# Altium footprint library mrsl.PcbLib: 218 footprints (part 10 of 14)
Each footprint in its own frame and in the unit in brackets; x right, y up, seen from the top. Pads: shape width x height; smd on the part's side, far side on the other; paste and mask are expansions set on the pad; w line width, h text height; cw(c..) or ccw(c..) is an arc to the next point about the centre after c.
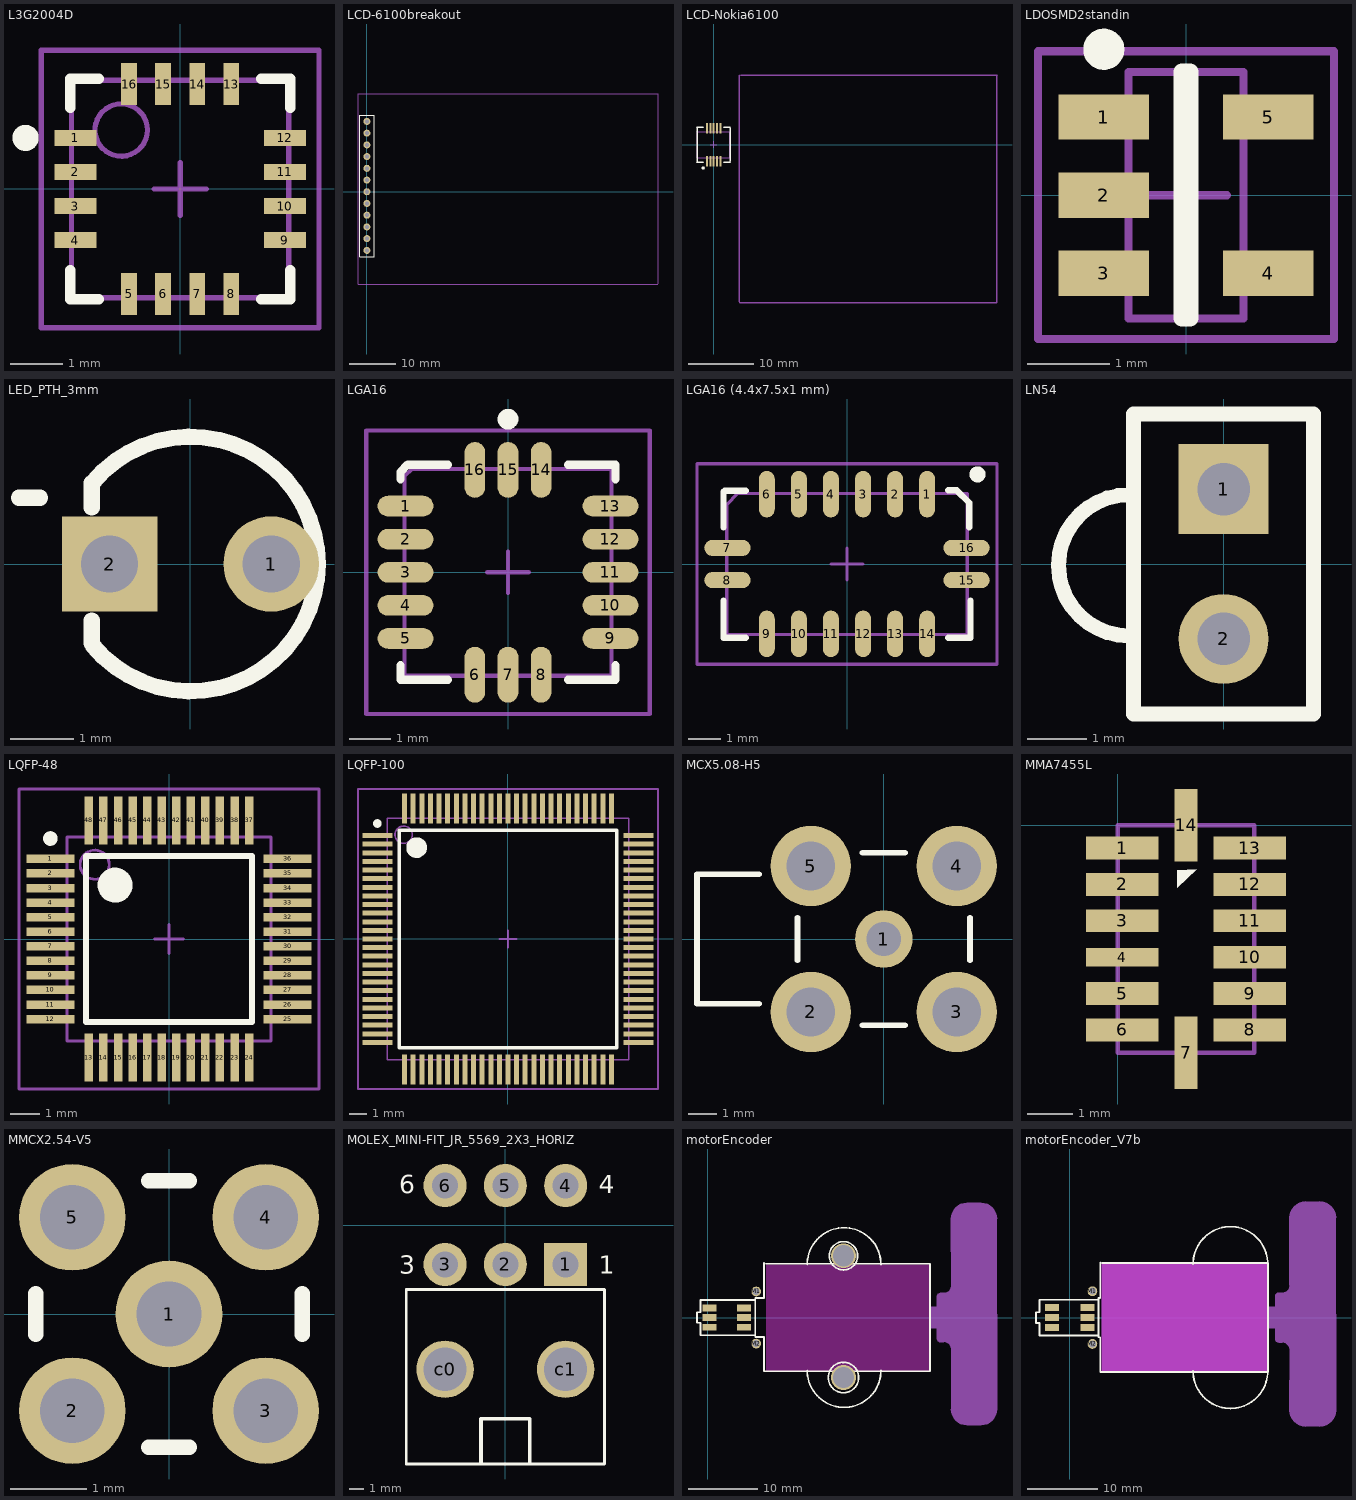
[diagram p9: the footprints below, top view; thin cyan lines are the x and y axes]

## L3G2004D [mm] "gyroscope"
height 1.1
pads (16):
  rect 0.8x0.3 smd: 1(-2,0.975) 2(-2,0.325) 3(-2,-0.325) 4(-2,-0.975) 9(2,-0.975) 10(2,-0.325) 11(2,0.325) 12(2,0.975)
  rect 0.3x0.8 smd: 5(-0.975,-2) 6(-0.325,-2) 7(0.325,-2) 8(0.975,-2) 13(0.975,2) 14(0.325,2) 15(-0.325,2) 16(-0.975,2)
Top Overlay:
  circle w0.25: c-2.95,0.975 r0.125
  lines w0.2: -2.1,-1.55 -2.1,-2.1 -1.55,-2.1 ; -2.1,1.55 -2.1,2.1 -1.55,2.1 ; 1.55,-2.1 2.1,-2.1 2.1,-1.55 ; 1.55,2.1 2.1,2.1 2.1,1.55
Mechanical 13:
  circle w0.1: c-1.125,1.125 r0.5
  lines w0.1: -2.075,-2.075 2.075,-2.075 2.075,2.075 -2.075,2.075 -2.075,-2.075
Mechanical 15:
  lines w0.1: -0.5,0 0.5,0 ; 0,-0.5 0,0.5 ; -2.65,-2.65 2.65,-2.65 2.65,2.65 -2.65,2.65 -2.65,-2.65
3D body: height 1.1, standoff 0.2, extent -2.075,-2.075 2.075,2.075

## LCD-6100breakout [mil]
pads (12):
  round 60 hole 35: 1(0,-500) 2(0,-400) 3(0,-300) 4(0,-200) 5(0,-100) 6(0,0) 7(0,100) 8(0,200) 9(0,300) 10(0,400) 11(0,500) 12(0,600)
Top Overlay:
  lines w10: -62,-553 -62,651 62,651 62,-553 -62,-553
Mechanical 1:
  lines w10: -76,-791 2480.32,-791 ; -76,-787.4 -76,837.4 ; -75,838 2480.32,838 ; 2484,-786 2484,837.8

## LCD-Nokia6100 [mil] "Connector, Socket Strip, Double Row, SMT, 20 Position, Vertical, Pitch 2mm, Body 20 x 4 mm (LxW)"
height 217.72
pads (10):
  rect 11.8x63 smd: 1(-40,-100) 2(-20,-100) 3(0,-100) 4(20,-100) 5(40,-100) 6(40,100) 7(20,100) 8(0,100) 9(-20,100) 10(-40,100)
Top Overlay:
  circle w9.84: c-62.92,-140 r4.92
  lines w7.87: -100,-100 -100,100 ; 100,-100 100,100
  lines w10: -100,-105 -62,-105 ; -100,104 -62,104 ; 62,-105 99,-105 ; 62,105 99,105
Mechanical 1:
  lines w10: 154,-943 154,417 ; 157,-949 1695,-949 ; 163,416 1701,416 ; 1700,-948 1700,412
Mechanical 13:
  lines w3.94: -100,-78.74 -100,78.74 98,78.74 98,-78.74 -100,-78.74
Mechanical 15:
  lines w3.94: -19.69,0 19.68,0 ; 0,-19.68 0,19.68
3D body: height 140.16, standoff 0, extent -101,-80 100,79

## LDOSMD2standin [mm] "SOT23, 5-Leads, Body 3.0x2.6mm (max), Pitch 0.95mm, IPC Medium Density"
height 1.1
pads (5):
  rect 1.1x0.55 smd: 1(-1,0.95) 2(-1,0) 3(-1,-0.95) 4(1,-0.95) 5(1,0.95)
Top Overlay:
  circle w0.25: c-1,1.775 r0.125
  lines w0.2: -0.05,-1.5 -0.05,1.5 0.05,1.5 0.05,-1.5 -0.05,-1.5
Mechanical 13:
  lines w0.1: -0.7,-1.5 0.7,-1.5 0.7,1.5 -0.7,1.5 -0.7,-1.5
Mechanical 15:
  lines w0.1: -0.5,0 0.5,0 ; 0,-0.5 0,0.5 ; -1.8,-1.75 1.8,-1.75 1.8,1.75 -1.8,1.75 -1.8,-1.75
3D body: height 1.1, standoff 0.05, extent -0.7,-1.5 0.7,1.5

## LED_PTH_3mm [mm] "Pin Though Hole 3mm LED with 0.1 Pitch Leads"
height 5
pads (2):
  round 1.5 hole 0.9: 1(1.27,0)
  rect 1.5x1.5 hole 0.9: 2(-1.27,0)
Top Overlay:
  lines w0.254: -2.692,1.041 -2.362,1.041 ; -1.549,-1.245 -1.549,-0.889 ; -1.549,0.889 -1.549,1.27 ; -1.532,-1.286 ccw(c0,0) -1.532,1.286

## LGA16 [mm] "LCC, 16-Pins, Body 5.2x5.2mm (max), Pitch 0.80mm, IPC Medium Density"
height 1.6
pads (16):
  oval 1.35x0.5 smd: 1(-2.475,1.6) 2(-2.475,0.8) 3(-2.475,0) 4(-2.475,-0.8) 5(-2.475,-1.6) 9(2.475,-1.6) 10(2.475,-0.8) 11(2.475,0) 12(2.475,0.8) 13(2.475,1.6)
  oval 0.5x1.35 smd: 6(-0.8,-2.475) 7(0,-2.475) 8(0.8,-2.475) 14(0.8,2.475) 15(0,2.475) 16(-0.8,2.475)
Top Overlay:
  circle w0.25: c0,3.7 r0.125
  lines w0.2: -2.6,-2.25 -2.6,-2.6 -1.45,-2.6 ; -2.6,2.25 -2.6,2.425 -2.425,2.6 -1.45,2.6 ; 1.45,-2.6 2.6,-2.6 2.6,-2.25 ; 1.45,2.6 2.6,2.6 2.6,2.25
Mechanical 13:
  lines w0.1: -2.5,-2.5 -2.5,2.325 -2.325,2.5 2.5,2.5 2.5,-2.5 -2.5,-2.5
Mechanical 15:
  lines w0.1: -0.5,0 0.5,0 ; 0,-0.5 0,0.5 ; -3.425,-3.425 -3.425,3.425 3.425,3.425 3.425,-3.425 -3.425,-3.425
3D body: height 1.6, standoff 0, extent -2.5,-2.5 2.5,2.5

## LGA16 (4.4x7.5x1 mm) [mm] "LCC, 16-Pins, Body 7.7x4.6mm (max), Pitch 1.00mm, IPC Medium Density"
height 1
pads (16):
  oval 0.5x1.45 smd: 1(2.5,2.175) 2(1.5,2.175) 3(0.5,2.175) 4(-0.5,2.175) 5(-1.5,2.175) 6(-2.5,2.175) 9(-2.5,-2.175) 10(-1.5,-2.175) 11(-0.5,-2.175) 12(0.5,-2.175) 13(1.5,-2.175) 14(2.5,-2.175)
  oval 1.45x0.5 smd: 7(-3.725,0.5) 8(-3.725,-0.5) 15(3.725,-0.5) 16(3.725,0.5)
Top Overlay:
  circle w0.25: c4.066,2.794 r0.125
  lines w0.2: -3.85,-1.15 -3.85,-2.3 -3.15,-2.3 ; -3.85,1.15 -3.85,2.246 -3.81,2.286 -3.15,2.286 ; 3.15,-2.3 3.85,-2.3 3.85,-1.15 ; 3.15,2.3 3.415,2.3 3.81,1.905 3.81,1.15
Mechanical 13:
  lines w0.1: -3.75,-2.2 -3.75,1.85 -3.4,2.2 3.75,2.2 3.75,-2.2 -3.75,-2.2
Mechanical 15:
  lines w0.1: -0.5,0 0.5,0 ; 0,-0.5 0,0.5 ; -4.675,-3.125 -4.675,3.125 4.675,3.125 4.675,-3.125 -4.675,-3.125
3D body: height 1, standoff 0, extent -3.75,-2.2 3.75,2.2

## LN54 [mil]
pads (2):
  rect 60x60 hole 35: 1(0,50)
  round 60 hole 35: 2(0,-50)
Top Overlay:
  lines w10: -62.99,-47.88 cw(c-62.99,-0.87) -62.99,46.15 ; -60,-100 -60,100 60,100 60,-100 -60,-100

## LQFP-48 [mm] "sound chip (9x9mm)"
height 1.6
pads (48):
  rect 1.65x0.29 smd: 1(-4.075,2.75) 2(-4.075,2.25) 3(-4.075,1.75) 4(-4.075,1.25) 5(-4.075,0.75) 6(-4.075,0.25) 7(-4.075,-0.25) 8(-4.075,-0.75) 9(-4.075,-1.25) 10(-4.075,-1.75) 11(-4.075,-2.25) 12(-4.075,-2.75) 25(4.075,-2.75) 26(4.075,-2.25) 27(4.075,-1.75) 28(4.075,-1.25) 29(4.075,-0.75) 30(4.075,-0.25) 31(4.075,0.25) 32(4.075,0.75) 33(4.075,1.25) 34(4.075,1.75) 35(4.075,2.25) 36(4.075,2.75)
  rect 0.29x1.65 smd: 13(-2.75,-4.075) 14(-2.25,-4.075) 15(-1.75,-4.075) 16(-1.25,-4.075) 17(-0.75,-4.075) 18(-0.25,-4.075) 19(0.25,-4.075) 20(0.75,-4.075) 21(1.25,-4.075) 22(1.75,-4.075) 23(2.25,-4.075) 24(2.75,-4.075) 37(2.75,4.075) 38(2.25,4.075) 39(1.75,4.075) 40(1.25,4.075) 41(0.75,4.075) 42(0.25,4.075) 43(-0.25,4.075) 44(-0.75,4.075) 45(-1.25,4.075) 46(-1.75,4.075) 47(-2.25,4.075) 48(-2.75,4.075)
Top Overlay:
  circle w0.6: c-1.85,1.85 r0.3
  circle w0.25: c-4.075,3.45 r0.125
  lines w0.2: -2.85,-2.85 2.85,-2.85 2.85,2.85 -2.85,2.85 -2.85,-2.85
Mechanical 13:
  circle w0.1: c-2.55,2.55 r0.5
  lines w0.1: -3.5,-3.5 3.5,-3.5 3.5,3.5 -3.5,3.5 -3.5,-3.5
Mechanical 15:
  lines w0.1: -0.5,0 0.5,0 ; 0,-0.5 0,0.5 ; -5.15,-5.15 5.15,-5.15 5.15,5.15 -5.15,5.15 -5.15,-5.15
3D body: height 1.6, standoff 0.05, extent -3.5,-3.5 3.5,3.5

## LQFP-100 [mm] "100-Pin LQFP Package"
height 1.6
pads (100):
  rect 1.75x0.29 smd: 1(-7.575,6) 2(-7.575,5.5) 3(-7.575,5) 4(-7.575,4.5) 5(-7.575,4) 6(-7.575,3.5) 7(-7.575,3) 8(-7.575,2.5) 9(-7.575,2) 10(-7.575,1.5) 11(-7.575,1) 12(-7.575,0.5) 13(-7.575,0) 14(-7.575,-0.5) 15(-7.575,-1) 16(-7.575,-1.5) 17(-7.575,-2) 18(-7.575,-2.5) 19(-7.575,-3) 20(-7.575,-3.5) 21(-7.575,-4) 22(-7.575,-4.5) 23(-7.575,-5) 24(-7.575,-5.5) 25(-7.575,-6) 51(7.575,-6) 52(7.575,-5.5) 53(7.575,-5) 54(7.575,-4.5) 55(7.575,-4) 56(7.575,-3.5) 57(7.575,-3) 58(7.575,-2.5) 59(7.575,-2) 60(7.575,-1.5) 61(7.575,-1) 62(7.575,-0.5) 63(7.575,0) 64(7.575,0.5) 65(7.575,1) 66(7.575,1.5) 67(7.575,2) 68(7.575,2.5) 69(7.575,3) 70(7.575,3.5) 71(7.575,4) 72(7.575,4.5) 73(7.575,5) 74(7.575,5.5) 75(7.575,6)
  rect 0.29x1.75 smd: 26(-6,-7.575) 27(-5.5,-7.575) 28(-5,-7.575) 29(-4.5,-7.575) 30(-4,-7.575) 31(-3.5,-7.575) 32(-3,-7.575) 33(-2.5,-7.575) 34(-2,-7.575) 35(-1.5,-7.575) 36(-1,-7.575) 37(-0.5,-7.575) 38(0,-7.575) 39(0.5,-7.575) 40(1,-7.575) 41(1.5,-7.575) 42(2,-7.575) 43(2.5,-7.575) 44(3,-7.575) 45(3.5,-7.575) 46(4,-7.575) 47(4.5,-7.575) 48(5,-7.575) 49(5.5,-7.575) 50(6,-7.575) 76(6,7.575) 77(5.5,7.575) 78(5,7.575) 79(4.5,7.575) 80(4,7.575) 81(3.5,7.575) 82(3,7.575) 83(2.5,7.575) 84(2,7.575) 85(1.5,7.575) 86(1,7.575) 87(0.5,7.575) 88(0,7.575) 89(-0.5,7.575) 90(-1,7.575) 91(-1.5,7.575) 92(-2,7.575) 93(-2.5,7.575) 94(-3,7.575) 95(-3.5,7.575) 96(-4,7.575) 97(-4.5,7.575) 98(-5,7.575) 99(-5.5,7.575) 100(-6,7.575)
Top Overlay:
  circle w0.25: c-7.575,6.7 r0.125
  circle w0.6: c-5.3,5.3 r0.3
  lines w0.2: -6.3,-6.3 -6.3,6.3 6.3,6.3 6.3,-6.3 -6.3,-6.3
Mechanical 13:
  circle w0.1: c-6.05,6.05 r0.5
  lines w0.1: -7,-7 -7,7 7,7 7,-7 -7,-7
Mechanical 15:
  lines w0.1: -0.5,0 0.5,0 ; 0,-0.5 0,0.5 ; -8.7,-8.7 -8.7,8.7 8.7,8.7 8.7,-8.7 -8.7,-8.7
3D body: height 1.6, standoff 0.15, extent -7,-7 7,7

## MCX5.08-H5 [mm] "Connector; RF Coaxial, MCX, Thru-Hole; 5 Position; Right-Angle"
height 5.85
pads (5):
  round 2 hole 1.2: 1(0,0)
  round 2.8 hole 1.7: 2(-2.54,-2.54) 3(2.54,-2.54) 4(2.54,2.54) 5(-2.54,2.54)
Top Overlay:
  lines w0.2: -4.34,-2.25 -6.5,-2.25 -6.5,2.25 -4.34,2.25 ; -3,-0.74 -3,0.74 ; -0.74,-3 0.74,-3 ; -0.74,3 0.74,3 ; 3,-0.74 3,0.74

## MMA7455L [mm]
pads (14):
  rect 1.6x0.5 smd: 1(0.1,-0.5) 2(0.1,-1.3) 3(0.1,-2.1) 5(0.1,-3.7) 6(0.1,-4.5) 8(2.9,-4.5) 9(2.9,-3.7) 10(2.9,-2.9) 11(2.9,-2.1) 12(2.9,-1.3) 13(2.9,-0.5)
  rect 1.6x0.4 smd: 4(0.1,-2.9)
  rect 0.5x1.6 smd: 7(1.5,-5) 14(1.5,0)
Top Overlay:
  region: 1.308,-1.372 1.308,-0.991 1.74,-0.965
Mechanical 13:
  lines w0.1: 0,-5 0,0 3,0 3,-5 0,-5

## MMCX2.54-V5 [mm] "Connector; RF Coaxial, MMCX, Thru-Hole; 5 Position; Vertical"
height 4.45
pads (5):
  round 1.4 hole 0.85: 1(0,0) 2(-1.27,-1.27) 3(1.27,-1.27) 4(1.27,1.27) 5(-1.27,1.27)
Top Overlay:
  lines w0.2: -1.75,-0.27 -1.75,0.27 ; -0.27,-1.75 0.27,-1.75 ; -0.27,1.75 0.27,1.75 ; 1.75,-0.27 1.75,0.27

## MOLEX_MINI-FIT_JR_5569_2X3_HORIZ [mm] "Molex Mini-Fit Jr 5569 Shrouded Rectangular Male Header, Through Hole, Right Angle, 2X3 Pins with Board Lock"
height 10
pads (8):
  rect 3x3 hole 1.8: 1(4.2,-2.75)
  round 3 hole 1.8: 2(0,-2.75) 3(-4.2,-2.75) 4(4.2,2.75) 5(0,2.75) 6(-4.2,2.75)
  round 4 hole 3: c0(-4.2,-10.05) c1(4.2,-10.05)
Top Overlay:
  lines w0.2: -6.9,-16.65 -6.9,-4.5 6.9,-4.5 6.9,-16.65 -6.9,-16.65
  lines w0.254: -1.7,-16.586 -1.7,-13.5 1.7,-13.5 1.7,-16.586
  text "4" at 6.5,2.2 h1.27
  text "1" at 6.5,-3.4 h1.27
  text "3" at -7.4,-3.4 h1.27
  text "6" at -7.4,2.2 h1.27
3D body: height 10, standoff 0.2, extent -6.883,-16.662 6.883,-3.835

## motorEncoder [mm] "Precision Wire Wound Inductor, 2-Leads, Body 2.5x2.3mm, IPC Medium Density"
height 2.29
pads (8):
  rect 2x1 smd: A(0.25,1.4) C(5.25,1.4) E1(5.25,0) E2(5.25,-1.4) K(0.25,-1.4) NC(0.25,0)
  round 1.4 hole 1: M1(7,3.75) M2(7,-3.75)
via 19.558,8.89 diameter 3.556 hole 3.048
via 19.558,-8.636 diameter 3.556 hole 3.048
Top Overlay:
  circle w0.254: c19.558,8.89 r2.032
  circle w0.254: c19.558,-8.636 r2.185
  lines w0.254: 6.858,-2.54 -1.02,-2.54 -1.02,-0.762 -1.524,-0.762 -1.524,0.762 -1.01,0.762 -1.01,2.54 6.858,2.54 ; 8.128,-7.75 32,-7.75 32,7.75 8.382,7.75 ; 8.128,-7.62 8.128,-2.794 6.858,-2.794 6.858,-2.032 6.858,2.794 8.128,2.794 8.128,7.874 ; 14.341,-7.62 ccw(c19.65,-7.62) 24.959,-7.62 ; 14.341,7.62 cw(c19.65,7.62) 24.959,7.62
Keep-Out Layer:
  rectangle: 8.382,-7.874 32.004,7.62
Mechanical 1:
  region: 35.035,14.224 35.08,14.672 35.21,15.103 35.423,15.5 35.708,15.848 36.056,16.134 36.453,16.346 36.884,16.477 37.332,16.521 37.332,16.51 39.364,16.521 39.813,16.477 40.244,16.346 40.641,16.134 40.989,15.848 41.274,15.5 41.487,15.103 41.617,14.672 41.662,14.224 41.65,14.224 41.662,-13.208 41.617,-13.656 41.487,-14.087 41.274,-14.484 40.989,-14.832 40.641,-15.118 40.244,-15.33 39.813,-15.461 39.364,-15.505 39.364,-15.494 37.332,-15.505 36.884,-15.461 36.453,-15.33 36.056,-15.118 35.708,-14.832 35.423,-14.484 35.21,-14.087 35.08,-13.656 35.035,-13.208 35.046,-13.208 35.055,-4.572 35.02,-4.307 34.918,-4.06 34.755,-3.847 34.543,-3.685 34.296,-3.582 34.03,-3.547 34.03,-3.556 33.522,-3.566 33.324,-3.527 33.156,-3.414 33.044,-3.246 33.005,-3.048 33.014,-3.048 33.005,3.048 33.044,3.246 33.156,3.414 33.324,3.527 33.522,3.566 33.522,3.556 34.03,3.547 34.296,3.582 34.543,3.685 34.755,3.847 34.918,4.06 35.02,4.307 35.055,4.572 35.046,4.572
  region: 32.004,1.524 33.02,1.524 33.02,-1.524 32.004,-1.524

## motorEncoder_V7b [mm] "Precision Wire Wound Inductor, 2-Leads, Body 2.5x2.3mm, IPC Medium Density"
height 2.29
pads (8):
  rect 2x1 smd: A(-2.524,1.4) C(2.476,1.4) E1(2.476,0) E2(2.476,-1.4) K(-2.524,-1.4) NC(-2.524,0)
  round 1.4 hole 1: M1(3.185,3.75) M2(3.185,-3.75)
Top Overlay:
  lines w0.254: 4.059,-2.54 -4.333,-2.54 -4.333,-0.762 -4.831,-0.762 -4.831,0.762 -4.323,0.762 -4.323,2.54 4.059,2.54 ; 4.313,-7.75 28.185,-7.75 28.185,7.75 4.567,7.75 ; 4.313,-7.62 4.313,-2.794 4.059,-2.794 4.059,-1.016 4.059,2.794 4.313,2.794 4.313,7.874 ; 17.52,-7.62 ccw(c22.829,-7.62) 28.138,-7.62 ; 17.521,7.62 cw(c22.829,7.62) 28.138,7.62
Mechanical 1:
  region: 28.189,1.524 29.205,1.524 29.205,-1.524 28.189,-1.524
  region: 31.22,14.224 31.264,14.672 31.395,15.103 31.607,15.5 31.893,15.848 32.241,16.134 32.638,16.346 33.069,16.477 33.517,16.521 33.517,16.51 35.549,16.521 35.997,16.477 36.428,16.346 36.825,16.134 37.173,15.848 37.459,15.5 37.671,15.103 37.802,14.672 37.846,14.224 37.835,14.224 37.846,-13.208 37.802,-13.656 37.671,-14.087 37.459,-14.484 37.173,-14.832 36.825,-15.118 36.428,-15.33 35.997,-15.461 35.549,-15.505 35.549,-15.494 33.517,-15.505 33.069,-15.461 32.638,-15.33 32.241,-15.118 31.893,-14.832 31.607,-14.484 31.395,-14.087 31.264,-13.656 31.22,-13.208 31.231,-13.208 31.24,-4.572 31.205,-4.307 31.102,-4.06 30.94,-3.847 30.727,-3.685 30.48,-3.582 30.215,-3.547 30.215,-3.556 29.707,-3.566 29.509,-3.527 29.341,-3.414 29.228,-3.246 29.189,-3.048 29.199,-3.048 29.189,3.048 29.228,3.246 29.341,3.414 29.509,3.527 29.707,3.566 29.707,3.556 30.215,3.547 30.48,3.582 30.727,3.685 30.94,3.847 31.102,4.06 31.205,4.307 31.24,4.572 31.231,4.572
Mechanical 1 keep-out:
  rectangle: 4.496,-7.849 28.118,7.645